# EAGLE library part LED-7SEG-LDS-A514RI (library steves)
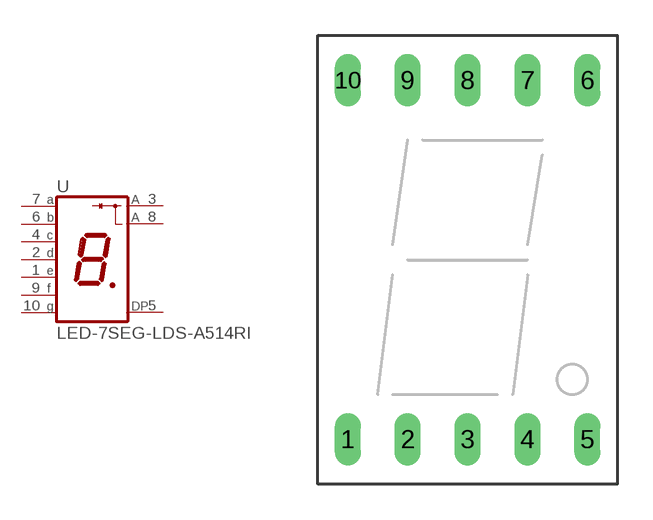
[diagram p18: symbol with the pads of LED-7SEG-0.56-AA; footprint LED-7SEG-0.56-AA]

Designator prefix -

## LED-7SEG-LDS-A514RI  [LED-7SEG-0.56-AA]
1  E  pas
2  D  pas
3  A  pas
4  C  pas
5  DP  pas
6  B  pas
7  A  pas
8  A  pas
9  F  pas
10  G  pas

## Footprint LED-7SEG-0.56-AA (pad centres in mm)
drill 0.6 long: 1 -5.08,-7.62; 2 -2.54,-7.62; 3 0,-7.62; 4 2.54,-7.62; 5 5.08,-7.62; 6 5.08,7.62; 7 2.54,7.62; 8 0,7.62; 9 -2.54,7.62; 10 -5.08,7.62